# EAGLE library part 14A-5VA (library trafo-signal)
TRANSFORMER
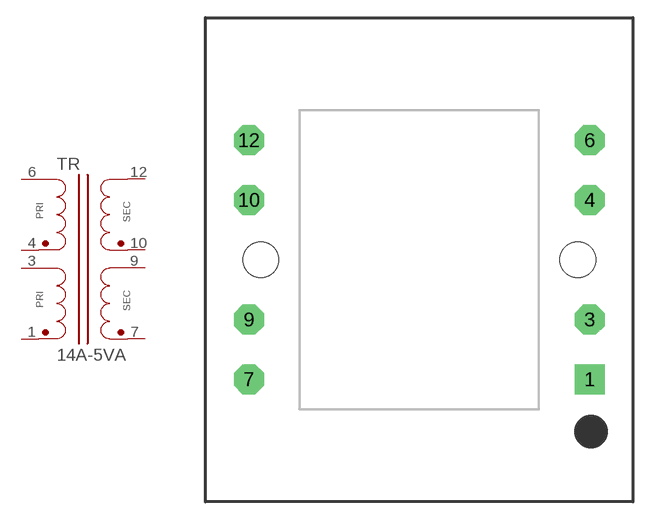
[diagram p7: symbol with the pads of 14A-5VA; footprint 14A-5VA]

Designator prefix TR

## 14A-5VA  [14A-5VA]
1  1  pas
3  3  pas
4  4  pas
6  6  pas
7  7  pas
9  9  pas
10  10  pas
12  12  pas

## Footprint 14A-5VA (pad centres in mm)
14A Series - 5VA
drill 1.422 pad 2.54 square: 1 14.478,-10.16
drill 1.422 pad 2.54 octagon: 3 14.478,-5.08; 4 14.478,5.08; 6 14.478,10.16; 7 -14.478,-10.16; 9 -14.478,-5.08; 10 -14.478,5.08; 12 -14.478,10.16
hole 3.048 at -13.462,0
hole 3.048 at 13.462,0